# Altium integrated library 2.2 16V X7R.IntLib: 1 symbol
Pins are listed as number, name and electrical type; pins without a type are passive.

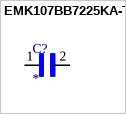
[diagram p0: symbol EMK107BB7225KA-T]

## EMK107BB7225KA-T
designator C?
2.2ÂµF Â±10% 16V Ceramic Capacitor X7R 0603 (1608 Metric); MP: EMK107BB7225KA-T; MF: Taiyo Yuden; Package: 1608 Taiyo Yuden; Purchase-URL: https://pricing.snapeda.com/search/part/EMK107BB7225KA-T/?ref=eda; Check_prices: https://www.snapeda.com/parts/EMK107BB7225KA-T/Taiyo%20Yuden/view-part/1474310/?ref=eda; Digi-Key_Part_Number: 587-5835-1-ND; Value: *; SnapEDA_Link: https://www.snapeda.com/parts/EMK107BB7225KA-T/Taiyo%20Yuden/view-part/1474310/?ref=snap
footprint CAPC1709X100N
pins: 1, 2